# Altium schematic symbol library SCH - DRIVER - LED - TI TPIC2810_D_16.SchLib: 1 symbol
Pins are listed as number, name and electrical type; pins without a type are passive.

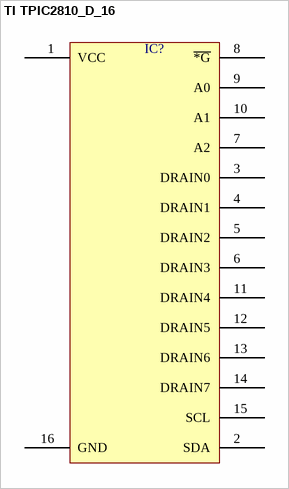
[diagram p0: symbol TI TPIC2810_D_16]

## TI TPIC2810_D_16
designator IC?  (value not drawn)
pins: 1 VCC, 2 SDA, 3 DRAIN0, 4 DRAIN1, 5 DRAIN2, 6 DRAIN3, 7 A2, 8 ~{*G}, 9 A0, 10 A1, 11 DRAIN4, 12 DRAIN5, 13 DRAIN6, 14 DRAIN7, 15 SCL, 16 GND